# EAGLE library part ESP32-WROOM-32D+WROVER-XX (library ESP)
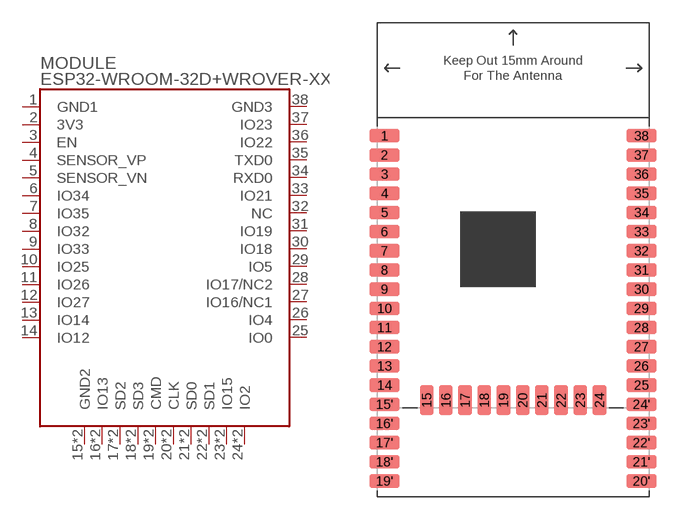
[diagram p2: symbol with the pads of ESP32-WROOM-32D+WROVER-XX; footprint ESP32-WROOM-32D+WROVER-XX]

Designator prefix MODULE

## ESP32-WROOM-32D+WROVER-XX  [ESP32-WROOM-32D+WROVER-XX]
1  GND1
2  3V3
3  EN
4  SENSOR_VP
5  SENSOR_VN
6  IO34
7  IO35
8  IO32
9  IO33
10  IO25
11  IO26
12  IO27
13  IO14
14  IO12
15  GND2
15'  GND2
16  IO13
16'  IO13
17  SD2
17'  SD2
18  SD3
18'  SD3
19  CMD
19'  CMD
20  CLK
20'  CLK
21  SD0
21'  SD0
22  SD1
22'  SD1
23  IO15
23'  IO15
24  IO2
24'  IO2
25  IO0
26  IO4
27  IO16/NC1
28  IO17/NC2
29  IO5
30  IO18
31  IO19
32  NC
33  IO21
34  RXD0
35  TXD0
36  IO22
37  IO23
38  GND3

## Footprint ESP32-WROOM-32D+WROVER-XX (pad centres in mm)
smd 2 x 0.9: 1 -8.5,8.51; 2 -8.5,7.24; 3 -8.5,5.97; 4 -8.5,4.7; 5 -8.5,3.43; 6 -8.5,2.16; 7 -8.5,0.89; 8 -8.5,-0.38; 9 -8.5,-1.65; 10 -8.5,-2.92; 11 -8.5,-4.19; 12 -8.5,-5.46; 13 -8.5,-6.73; 14 -8.5,-8; 15' -8.5,-9.27; 16' -8.5,-10.54; 17' -8.5,-11.81; 18' -8.5,-13.08; 19' -8.5,-14.35; 20' 8.5,-14.35; 21' 8.5,-13.08; 22' 8.5,-11.81; 23' 8.5,-10.54; 24' 8.5,-9.27; 25 8.5,-8; 26 8.5,-6.73; 27 8.5,-5.46; 28 8.5,-4.19; 29 8.5,-2.92; 30 8.5,-1.65; 31 8.5,-0.38; 32 8.5,0.89; 33 8.5,2.16; 34 8.5,3.43; 35 8.5,4.7; 36 8.5,5.97; 37 8.5,7.24; 38 8.5,8.51
smd 0.9 x 2: 15 -5.715,-9; 16 -4.445,-9; 17 -3.175,-9; 18 -1.905,-9; 19 -0.635,-9; 20 0.635,-9; 21 1.905,-9; 22 3.175,-9; 23 4.445,-9; 24 5.715,-9